# Altium footprint library Black_Pill_STM32F401CCU6.PcbLib: 1 footprints
Each footprint in its own frame and in the unit in brackets; x right, y up, seen from the top. Pads: shape width x height; smd on the part's side, far side on the other; paste and mask are expansions set on the pad; w line width, h text height; cw(c..) or ccw(c..) is an arc to the next point about the centre after c.
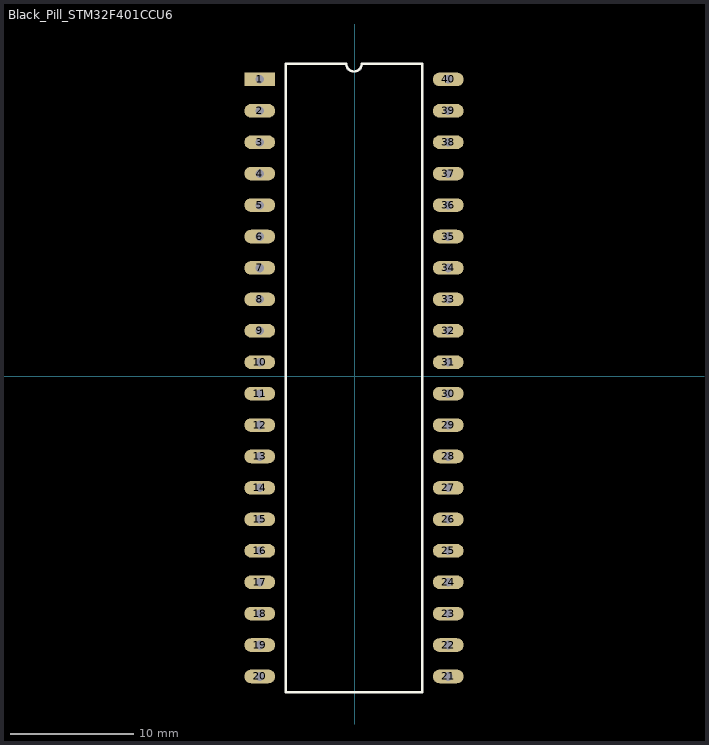
[diagram p0: the footprint, top view; thin cyan lines are the x and y axes]

## Black_Pill_STM32F401CCU6 [mm]
pads (40):
  rect 2.5x1.1 hole 0.7: 1(-7.7,24)
  oval 2.5x1.1 hole 0.7: 2(-7.7,21.46) 3(-7.7,18.92) 4(-7.7,16.38) 5(-7.7,13.84) 6(-7.7,11.3) 7(-7.7,8.76) 8(-7.7,6.22) 9(-7.7,3.68) 10(-7.7,1.14) 11(-7.7,-1.4) 12(-7.7,-3.94) 13(-7.7,-6.48) 14(-7.7,-9.02) 15(-7.7,-11.56) 16(-7.7,-14.1) 17(-7.7,-16.64) 18(-7.7,-19.18) 19(-7.7,-21.72) 20(-7.7,-24.26) 21(7.54,-24.26) 22(7.54,-21.72) 23(7.54,-19.18) 24(7.54,-16.64) 25(7.54,-14.1) 26(7.54,-11.56) 27(7.54,-9.02) 28(7.54,-6.48) 29(7.54,-3.94) 30(7.54,-1.4) 31(7.54,1.14) 32(7.54,3.68) 33(7.54,6.22) 34(7.54,8.76) 35(7.54,11.3) 36(7.54,13.84) 37(7.54,16.38) 38(7.54,18.92) 39(7.54,21.46) 40(7.54,24)
Top Overlay:
  lines w0.2: -5.615,-25.53 -5.615,25.27 -0.715,25.27 ccw(c-0.08,25.27) 0.555,25.27 5.455,25.27 5.455,-25.53 -5.615,-25.53
3D body "Black_Pill_STM32F401CCU6-83D05240-99A1-4BE9-BCC1-5BF66A4E1086.step": height 10.46, standoff -2, extent -10.49,-25.6 10.29,26.94